# Altium footprint library projectThermal.PcbLib: 41 footprints (part 1 of 3)
Each footprint in its own frame and in the unit in brackets; x right, y up, seen from the top. Pads: shape width x height; smd on the part's side, far side on the other; paste and mask are expansions set on the pad; w line width, h text height; cw(c..) or ccw(c..) is an arc to the next point about the centre after c.
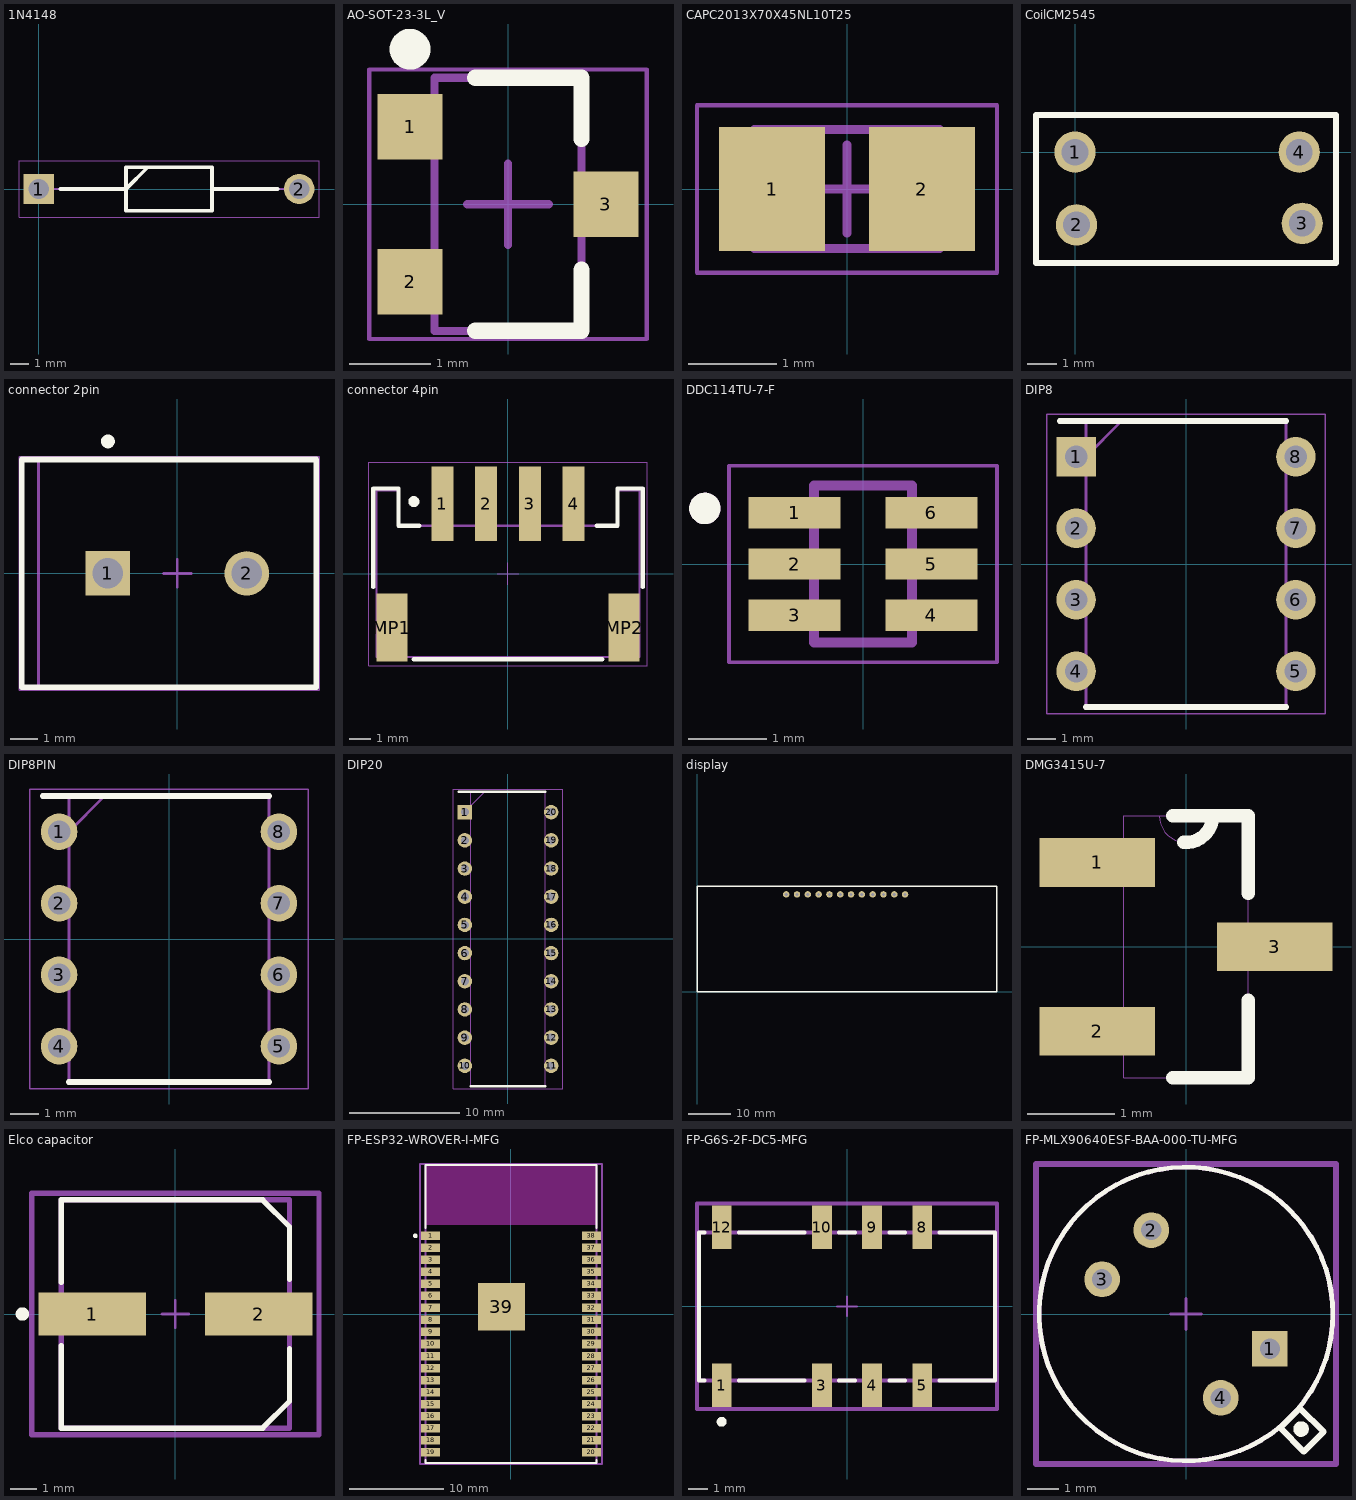
[diagram p0: the footprints below, top view; thin cyan lines are the x and y axes]

## 1N4148 [mm]
pads (2):
  rect 1.65x1.65 hole 1.1: 1(0,0)
  round 1.65 hole 1.1: 2(14.1,0)
Top Overlay:
  lines w0.2: 1.175,0 4.725,0 5.9,1.175 ; 9.375,0 12.925,0 ; 4.725,-1.175 9.375,-1.175 9.375,1.175 4.725,1.175 4.725,-1.175
Mechanical 13:
  lines w0.1: 0,0 4.725,0 5.9,1.175 ; 9.375,0 14.1,0 ; 4.725,-1.175 9.375,-1.175 9.375,1.175 4.725,1.175 4.725,-1.175
Mechanical 15:
  lines w0.05: -1.075,-1.525 15.175,-1.525 15.175,1.525 -1.075,1.525 -1.075,-1.525
3D body "1N4007-E3_53.stp": height 2.69, standoff -2.7, extent -0.441,-1.347 14.495,1.347

## AO-SOT-23-3L_V [mm] "SOT23, 3-Leads, Body 3.1x1.8mm, Pitch 0.95mm"
height 1.25
pads (3):
  rect 0.8x0.8 smd: 1(-1.2,0.95) 2(-1.2,-0.95) 3(1.2,0)
Top Overlay:
  circle w0.25: c-1.2,1.9 r0.125
  lines w0.2: -0.4,-1.55 0.9,-1.55 0.9,-0.8 ; -0.4,1.55 0.9,1.55 0.9,0.8
Mechanical 13:
  lines w0.1: -0.9,-1.55 0.9,-1.55 0.9,1.55 -0.9,1.55 -0.9,-1.55
Mechanical 15:
  lines w0.05: -1.7,-1.65 1.7,-1.65 1.7,1.65 -1.7,1.65 -1.7,-1.65
  lines w0.1: -0.5,0 0.5,0 ; 0,-0.5 0,0.5
3D body "SOT95P280X125-3L.step": height 1.25, standoff 0, extent -1.5,-1.55 1.5,1.55

## CAPC2013X70X45NL10T25 [mm] "Chip Capacitor, 2-Leads, Body 2.00x1.25mm, IPC Medium Density"
height 0.7
pads (2):
  rect 1.2x1.4 smd: 1(-0.85,0) 2(0.85,0)
Mechanical 13:
  lines w0.1: -1.05,-0.675 1.05,-0.675 1.05,0.675 -1.05,0.675 -1.05,-0.675
Mechanical 15:
  lines w0.05: -1.7,-0.95 1.7,-0.95 1.7,0.95 -1.7,0.95 -1.7,-0.95
  lines w0.1: -0.5,0 0.5,0 ; 0,-0.5 0,0.5
3D body: height 0.7, standoff 0, extent 0.6,-0.675 1.05,0.675
3D body: height 0.7, standoff 0, extent -1.05,-0.675 -0.6,0.675
3D body: height 0.7, standoff 0, extent -0.6,-0.675 0.6,0.675

## CoilCM2545 [mm]
pads (4):
  round 1.4 hole 0.9: 1(0,0) 2(0.051,-2.464) 3(7.696,-2.413) 4(7.595,0)
Top Overlay:
  lines w0.2: 4.531,1.25 8.839,1.25 8.839,-3.75 -1.321,-3.75 -1.321,1.25 4.674,1.25

## connector 2pin [mm] "Female Header, Pitch 5mm, 1 x 2 Position, Height 10mm"
height 10
pads (2):
  rect 1.6x1.6 hole 1.1: 1(-2.5,0)
  round 1.6 hole 1.1: 2(2.5,0)
Top Overlay:
  circle w0.25: c-2.5,4.75 r0.125
  lines w0.2: -5.6,-4.1 5,-4.1 5,4.1 -5.6,4.1 -5.6,-4.1
Mechanical 13:
  lines w0.1: -5,-4.1 -5,4.1 5,4.1 5,-4.1 -5,-4.1
Mechanical 15:
  lines w0.05: -5.7,-4.2 -5.7,4.2 5.1,4.2 5.1,-4.2 -5.7,-4.2
  lines w0.1: -0.5,0 0.5,0 ; 0,-0.5 0,0.5
3D body "c-282836-2-h-3d.stp": height 10, standoff -3.5, extent -5.6,-4.1 5,4.1

## connector 4pin [mm] "2.00mm SMT Male Horizontal Shrouded Header, 4p"
height 5.6
pads (6):
  rect 1x3.4 smd: 1(-3,3.2) 2(-1,3.2) 3(1,3.2) 4(3,3.2)
  rect 1.4x3.1 smd: MP1(-5.3,-2.45) MP2(5.3,-2.45)
Top Overlay:
  circle w0.25: c-4.3,3.3 r0.125
  lines w0.2: -6.15,-0.6 -6.15,3.9 -5,3.9 -5,2.2 -4.05,2.2 ; -4.3,-3.9 4.3,-3.9 ; 4.05,2.2 5,2.2 5,3.9 6.15,3.9 6.15,-0.6
Top Courtyard:
  lines w0.05: -0.5,0 0.5,0 ; 0,-0.5 0,0.5 ; -6.35,-4.2 -6.35,5.1 6.35,5.1 6.35,-4.2 -6.35,-4.2
Top Designator:
  text ".Designator" at -7.498,-0.5 h1.5
Top Component Outline:
  lines w0.1: -6,-3.8 -6,3.8 -5,3.8 -5,2.2 5,2.2 5,3.8 6,3.8 6,-3.8 -6,-3.8
3D body "620104131822.stp": height 5.57, standoff -0.01, extent -6,-3.8 6,4.8

## DDC114TU-7-F [mm]
pads (6):
  rect 1.17x0.4 smd: 1(-0.87,0.65) 2(-0.87,0) 3(-0.87,-0.65) 4(0.87,-0.65) 5(0.87,0) 6(0.87,0.65)
Top Overlay:
  circle w0.2: c-2.013,0.707 r0.1
Mechanical 13:
  circle w0.2: c-2.013,0.707 r0.1
  lines w0.127: -0.625,-1 0.625,-1 0.625,1 -0.625,1 -0.625,-1
Mechanical 15:
  lines w0.05: -1.705,-1.25 -1.705,1.25 1.705,1.25 1.705,-1.25 -1.705,-1.25
3D body "step_temp.STEP": height 1.1, standoff 0, extent -1.05,-1 1.05,1

## DIP8 [mm]
pads (8):
  rect 1.4x1.4 hole 0.8: 1(-3.905,3.81)
  round 1.4 hole 0.8: 2(-3.905,1.27) 3(-3.905,-1.27) 4(-3.905,-3.81) 5(3.905,-3.81) 6(3.905,-1.27) 7(3.905,1.27) 8(3.905,3.81)
Top Overlay:
  lines w0.2: -4.484,5.08 3.556,5.08 ; -3.556,-5.08 3.556,-5.08
Mechanical 13:
  lines w0.1: -3.556,3.81 -2.286,5.08 ; -3.556,-5.08 -3.556,5.08 3.556,5.08 3.556,-5.08 -3.556,-5.08
Mechanical 15:
  lines w0.05: -4.956,-5.33 -4.956,5.33 4.956,5.33 4.956,-5.33 -4.956,-5.33
3D body "MCP6002-E_P.stp": height 5.33, standoff -3.5, extent -4.045,-4.75 4.045,4.75

## DIP8PIN [mm]
pads (8):
  round 1.3 hole 0.8: 1(-3.905,3.81) 2(-3.905,1.27) 3(-3.905,-1.27) 4(-3.905,-3.81) 5(3.905,-3.81) 6(3.905,-1.27) 7(3.905,1.27) 8(3.905,3.81)
Top Overlay:
  lines w0.2: -4.484,5.08 3.556,5.08 ; -3.556,-5.08 3.556,-5.08
Mechanical 13:
  lines w0.1: -3.556,3.81 -2.286,5.08 ; -3.556,-5.08 3.556,-5.08 3.556,5.08 -3.556,5.08 -3.556,-5.08
Mechanical 15:
  lines w0.05: -4.956,-5.33 4.956,-5.33 4.956,5.33 -4.956,5.33 -4.956,-5.33
3D body "MCP6002-E_P.stp": height 5.33, standoff -3.5, extent -4.045,-4.75 4.045,4.75

## DIP20 [mm]
pads (20):
  rect 1.3x1.3 hole 0.73: 1(-3.892,11.43)
  round 1.3 hole 0.73: 2(-3.892,8.89) 3(-3.892,6.35) 4(-3.892,3.81) 5(-3.892,1.27) 6(-3.892,-1.27) 7(-3.892,-3.81) 8(-3.892,-6.35) 9(-3.892,-8.89) 10(-3.892,-11.43) 11(3.892,-11.43) 12(3.892,-8.89) 13(3.892,-6.35) 14(3.892,-3.81) 15(3.892,-1.27) 16(3.892,1.27) 17(3.892,3.81) 18(3.892,6.35) 19(3.892,8.89) 20(3.892,11.43)
Top Overlay:
  lines w0.2: -4.458,13.27 3.375,13.27 ; -3.375,-13.27 3.375,-13.27
Mechanical 13:
  lines w0.1: -3.375,12 -2.105,13.27 ; -3.375,-13.27 -3.375,13.27 3.375,13.27 3.375,-13.27 -3.375,-13.27
Mechanical 15:
  lines w0.05: -4.94,-13.52 -4.94,13.52 4.94,13.52 4.94,-13.52 -4.94,-13.52
3D body "TM1637.stp": height 4.31, standoff -3.5, extent -4.025,-13.06 4.025,13.06

## display [mil]
pads (12):
  round 60 hole 30: 1(825,900) 2(925,900) 3(1025,900) 4(1125,900) 5(1225,900) 6(1325,900) 7(1425,900) 8(1525,900) 9(1625,900) 10(1725,900) 11(1825,900) 12(1925,900)
Top Overlay:
  lines w11.81: 0,0 0,975 2775,975 2775,0 0,0

## DMG3415U-7 [mil]
pads (3):
  rect 52x22 smd: 1(-40,38) 2(-40,-38) 3(40,0)
Top Overlay:
  lines w6: -6,-59 28,-59 28,-24 ; -6,59 12,59 28,59 28,24 ; -1.04,47 ccw(c0,58.96) 12,58.96
Mechanical 13:
  lines w0: -28,-48 -49,-48 -49,-28 -28,-28 ; -28,-48 -28,-28 ; -28,-48 -28,-59 28,-59 28,-10 ; -28,-28 -28,28 ; -28,28 -49,28 -49,48 -28,48 ; -28,28 -28,48 ; -28,48 -28,59 -12,59 ; -12,59 ccw(c0,59) 12,59 ; -12,59 12,59 ; 12,59 28,59 28,10 ; 28,-10 49,-10 49,10 28,10 ; 28,-10 28,10
3D body "step_temp.STEP": height 44.88, standoff 0, extent -47.24,-57.09 47.24,57.09

## Elco capacitor [mm]
pads (2):
  rect 4x1.6 smd paste+0 mask+0: 1(-3.1,0) 2(3.1,0)
Top Overlay:
  circle w0.25: c-5.7,0 r0.125
  lines w0.2: -4.25,-1.175 -4.25,-4.25 3.25,-4.25 4.25,-3.25 4.25,-1.3 ; -4.25,1.175 -4.25,4.25 3.25,4.25 4.25,3.25 4.25,1.3
Top 3D Body:
  lines w0.2: -4.25,-4.25 -4.25,4.25 4.25,4.25 4.25,-4.25 -4.25,-4.25
Top Courtyard:
  lines w0.2: -5.35,-4.5 -5.35,4.5 5.35,4.5 5.35,-4.5 -5.35,-4.5
Top Assembly:
  lines w0.2: -5.35,-4.5 -5.35,4.5 5.35,4.5 5.35,-4.5 -5.35,-4.5
  text ".Designator" at 0,0.187 h1
Top Component Center:
  lines w0.1: -0.5,0 0.5,0 ; 0,-0.5 0,0.5
3D body "Cap_Panasonic_EEEFK1E101P_eec.STEP": height 0.25, standoff 0, extent -5.35,-4.5 5.35,4.5

## FP-ESP32-WROVER-I-MFG [mm]
pads (39):
  rect 2x0.9 smd paste+0 mask+0: 1(-8.5,8.26) 2(-8.5,6.99) 3(-8.5,5.72) 4(-8.5,4.45) 5(-8.5,3.18) 6(-8.5,1.91) 7(-8.5,0.64) 8(-8.5,-0.63) 9(-8.5,-1.9) 10(-8.5,-3.17) 11(-8.5,-4.44) 12(-8.5,-5.71) 13(-8.5,-6.98) 14(-8.5,-8.25) 15(-8.5,-9.52) 16(-8.5,-10.79) 17(-8.5,-12.06) 18(-8.5,-13.33) 19(-8.5,-14.6) 20(8.5,-14.6) 21(8.5,-13.33) 22(8.5,-12.06) 23(8.5,-10.79) 24(8.5,-9.52) 25(8.5,-8.25) 26(8.5,-6.98) 27(8.5,-5.71) 28(8.5,-4.44) 29(8.5,-3.17) 30(8.5,-1.9) 31(8.5,-0.63) 32(8.5,0.64) 33(8.5,1.91) 34(8.5,3.18) 35(8.5,4.45) 36(8.5,5.72) 37(8.5,6.99) 38(8.5,8.26)
  rect 5x5 smd paste+0 mask+0: 39(-1,0.76)
Top Overlay:
  circle w0.25: c-10.1,8.26 r0.125
  lines w0.2: -9.05,-15.425 -9.05,-15.75 9.05,-15.75 9.05,-15.425 ; -9.05,9.085 -9.05,15.75 9.05,15.75 9.05,9.085
Keep-Out Layer:
  rectangle: -9,9.4 9,15.7
  rectangle: -9,9.4 9,15.7
Top 3D Body:
  lines w0.2: -9.05,-15.75 -9.05,15.75 9.05,15.75 9.05,-15.75 -9.05,-15.75
Top Courtyard:
  lines w0.2: -9.6,-15.85 -9.6,15.85 9.6,15.85 9.6,-15.85 -9.6,-15.85
Top Assembly:
  lines w0.2: -9.6,-15.85 -9.6,15.85 9.6,15.85 9.6,-15.85 -9.6,-15.85
  text ".Designator" at 0,0.187 h1
Top Component Center:
  lines w0.1: -0.5,0 0.5,0 ; 0,-0.5 0,0.5
3D body "UNK_Espressif_ESP32-WROVER-I_eec.STEP": height 0.25, standoff 0, extent -9.6,-15.85 9.6,15.85

## FP-G6S-2F-DC5-MFG [mm]
pads (8):
  rect 1x2.2 smd paste+0 mask+0: 1(-6.35,-4) 3(-1.27,-4) 4(1.27,-4) 5(3.81,-4) 8(3.81,4) 9(1.27,4) 10(-1.27,4) 12(-6.35,4)
Top Overlay:
  circle w0.25: c-6.35,-5.85 r0.125
  lines w0.2: -7.225,-3.75 -7.5,-3.75 -7.5,3.75 -7.225,3.75 ; -5.475,-3.75 -2.145,-3.75 ; -5.475,3.75 -2.145,3.75 ; -0.395,-3.75 0.395,-3.75 ; -0.395,3.75 0.395,3.75 ; 2.145,-3.75 2.935,-3.75 ; 2.145,3.75 2.935,3.75 ; 4.685,-3.75 7.5,-3.75 7.5,3.75 4.685,3.75
Top 3D Body:
  lines w0.2: -7.5,-3.75 -7.5,3.75 7.5,3.75 7.5,-3.75 -7.5,-3.75
Top Courtyard:
  lines w0.2: -7.6,-5.2 -7.6,5.2 7.6,5.2 7.6,-5.2 -7.6,-5.2
Top Assembly:
  lines w0.2: -7.6,-5.2 -7.6,5.2 7.6,5.2 7.6,-5.2 -7.6,-5.2
  text ".Designator" at 0,-0.001 h1
Top Component Center:
  lines w0.1: -0.5,0 0.5,0 ; 0,-0.5 0,0.5

## FP-MLX90640ESF-BAA-000-TU-MFG [mm]
pads (4):
  rect 1.15x1.15 hole 0.65 paste-2539.97 mask+0: 1(2.698,-1.117)
  round 1.15 hole 0.65 paste-2539.97 mask+0: 2(-1.117,2.698) 3(-2.698,1.117) 4(1.117,-2.698)
Top Overlay:
  circle w0.15: c0,0 r4.725
  circle w0.25: c3.7,-3.7 r0.125
  lines w0.2: 3.025,-3.661 3.789,-4.425 4.425,-3.789 3.661,-3.025 3.025,-3.661
Top 3D Body:
  circle w0.15: c0,0 r4.725
Top Courtyard:
  lines w0.2: -4.825,-4.825 -4.825,4.825 4.825,4.825 4.825,-4.825 -4.825,-4.825
Top Assembly:
  lines w0.2: -4.825,-4.825 -4.825,4.825 4.825,4.825 4.825,-4.825 -4.825,-4.825
  text ".Designator" at 0,0.187 h1
Top Component Center:
  lines w0.1: -0.5,0 0.5,0 ; 0,-0.5 0,0.5
3D body "IC_Melexis_Technologies_NV_MLX90640ESF-BAA-000-TU_eec.STEP": height 0.25, standoff 0, extent -4.825,-4.825 4.825,4.825